# EAGLE library part W25Q128JVSIQ (library winbond)
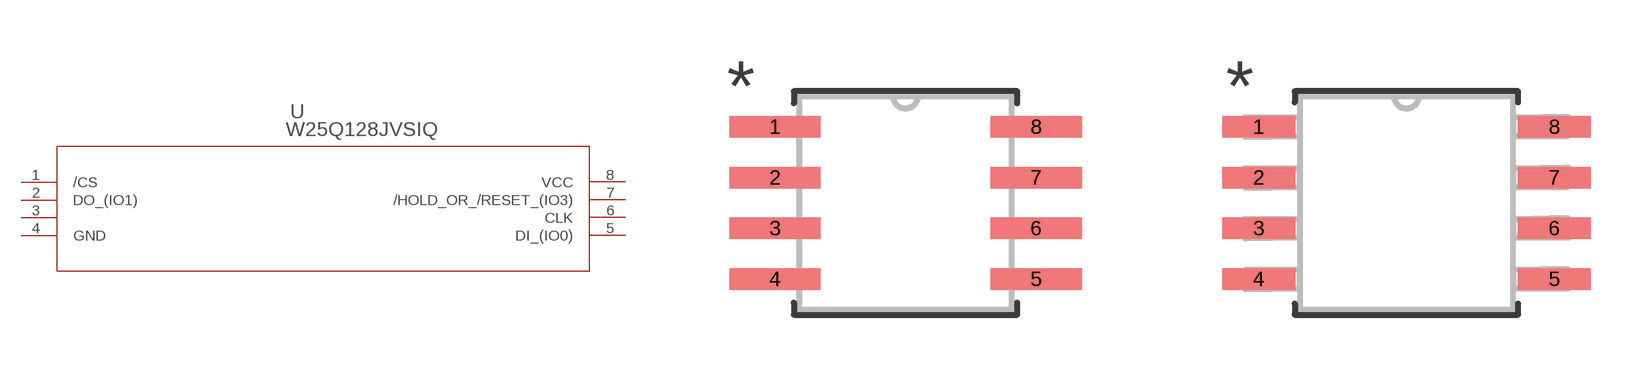
[diagram p0: symbol with the pads of SOIC_128JVSIQ_WIN; footprints SOIC_128JVSIQ_WIN, SOIC_128JVSIQ_WIN-M]

Designator prefix U

## W25Q128JVSIQ (COPYRIGHT: Copyright (C) 2022 Ultra Librarian. All rights reserved.; DIGI-KEY_PART_NUMBER_1: W25Q128JVSIQ-ND; MANUFACTURER_PART_NUMBER: W25Q128JVSIQ; MFR_NAME: Winbond)  [SOIC_128JVSIQ_WIN]
1  /CS  pas
2  DO_(IO1)  pas
3  /WP_(IO2)  pas
4  GND  pas
5  DI_(IO0)  pas
6  CLK  pas
7  /HOLD_OR_/RESET_(IO3)  pas
8  VCC  pwr

## W25Q128JVSIQSOIC_128JVSIQ_WIN-M (COPYRIGHT: Copyright (C) 2022 Ultra Librarian. All rights reserved.; DIGI-KEY_PART_NUMBER_1: W25Q128JVSIQ-ND; MANUFACTURER_PART_NUMBER: W25Q128JVSIQ; MFR_NAME: Winbond)  [SOIC_128JVSIQ_WIN-M]
Pads as for SOIC_128JVSIQ_WIN

## W25Q128JVSIQSOIC_128JVSIQ_WIN-L (COPYRIGHT: Copyright (C) 2022 Ultra Librarian. All rights reserved.; DIGI-KEY_PART_NUMBER_1: W25Q128JVSIQ-ND; MANUFACTURER_PART_NUMBER: W25Q128JVSIQ; MFR_NAME: Winbond)  [SOIC_128JVSIQ_WIN-L]
Pads as for SOIC_128JVSIQ_WIN

## Footprint SOIC_128JVSIQ_WIN (pad centres in mm)
smd 2.286 x 0.533: 1 -3.264,1.905; 2 -3.264,0.635; 3 -3.264,-0.635; 4 -3.264,-1.905; 5 3.264,-1.905; 6 3.264,-0.635; 7 3.264,0.635; 8 3.264,1.905

## Footprint SOIC_128JVSIQ_WIN-M (pad centres in mm)
smd 1.829 x 0.533: 1 -3.696,1.905; 2 -3.696,0.635; 3 -3.696,-0.635; 4 -3.696,-1.905; 5 3.696,-1.905; 6 3.696,-0.635; 7 3.696,0.635; 8 3.696,1.905

## Footprint SOIC_128JVSIQ_WIN-L (pad centres in mm)
smd 1.219 x 0.483: 1 -3.594,1.905; 2 -3.594,0.635; 3 -3.594,-0.635; 4 -3.594,-1.905; 5 3.594,-1.905; 6 3.594,-0.635; 7 3.594,0.635; 8 3.594,1.905